# Altium schematic symbol library sonar_rev2.SchLib: 3 symbols
Pins are listed as number, name and electrical type; pins without a type are passive.

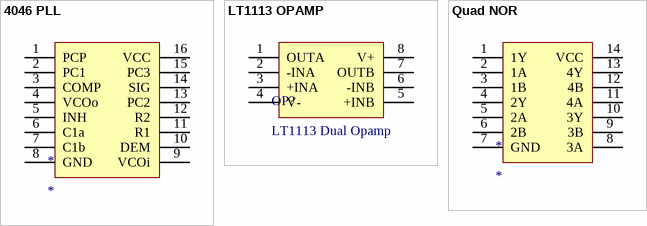
[diagram p0: symbols 4046 PLL to Quad NOR]

## 4046 PLL
designator *
CD74HC4046A
footprint 4046PLL
pins: 1 PCP (power), 2 PC1 (power), 3 COMP (power), 4 VCOo (power), 5 INH (power), 6 C1a (power), 7 C1b (power), 8 GND (power), 9 VCOi (power), 10 DEM (power), 11 R1 (power), 12 R2 (power), 13 PC2 (power), 14 SIG (power), 15 PC3 (power), 16 VCC (power)

## LT1113 OPAMP
designator OP?, comment LT1113 Dual Opamp
pins: 1 OUTA (power), 2 -INA (power), 3 +INA (power), 4 V- (power), 5 +INB (power), 6 -INB (power), 7 OUTB (power), 8 V+ (power)

## Quad NOR
designator *
HD74HC02
pins: 1 1Y (power), 2 1A (power), 3 1B (power), 4 2Y (power), 5 2A (power), 6 2B (power), 7 GND (power), 8 3A (power), 9 3B (power), 10 3Y (power), 11 4A (power), 12 4B (power), 13 4Y (power), 14 VCC (power)